# EAGLE library part W25Q64FVSS (library MakBit)
W25Q64FVSS - SPI Flash in SOIC-8 (208 mil, i.e. 5.3mm) package.
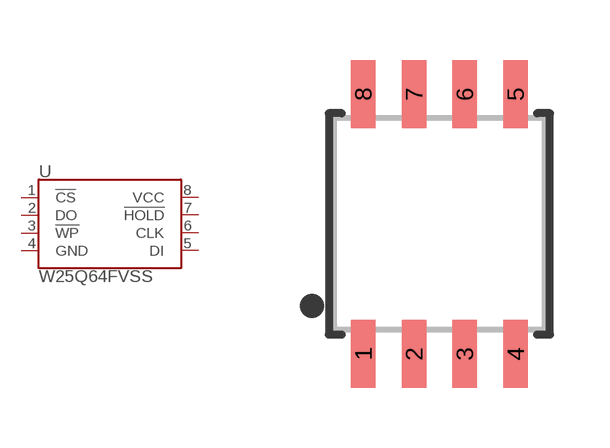
[diagram p19: symbol with the pads of SOIC-8; footprint SOIC-8]

Designator prefix U

## W25Q64FVSS  [SOIC-8]
1  !CS
2  DO
3  !WP
4  GND
5  DI
6  CLK
7  !HOLD
8  VCC

## Footprint SOIC-8 (pad centres in mm)
8-Pin SOIC 208-mil (Package code SS)
smd 0.61 x 1.702: 1 -1.905,-3.251; 2 -0.635,-3.251; 3 0.635,-3.251; 4 1.905,-3.251; 5 1.905,3.251; 6 0.635,3.251; 7 -0.635,3.251; 8 -1.905,3.251